# Altium integrated library MSP430 Altium Binary 5 Format.IntLib: 6 symbols
Pins are listed as number, name and electrical type; pins without a type are passive.

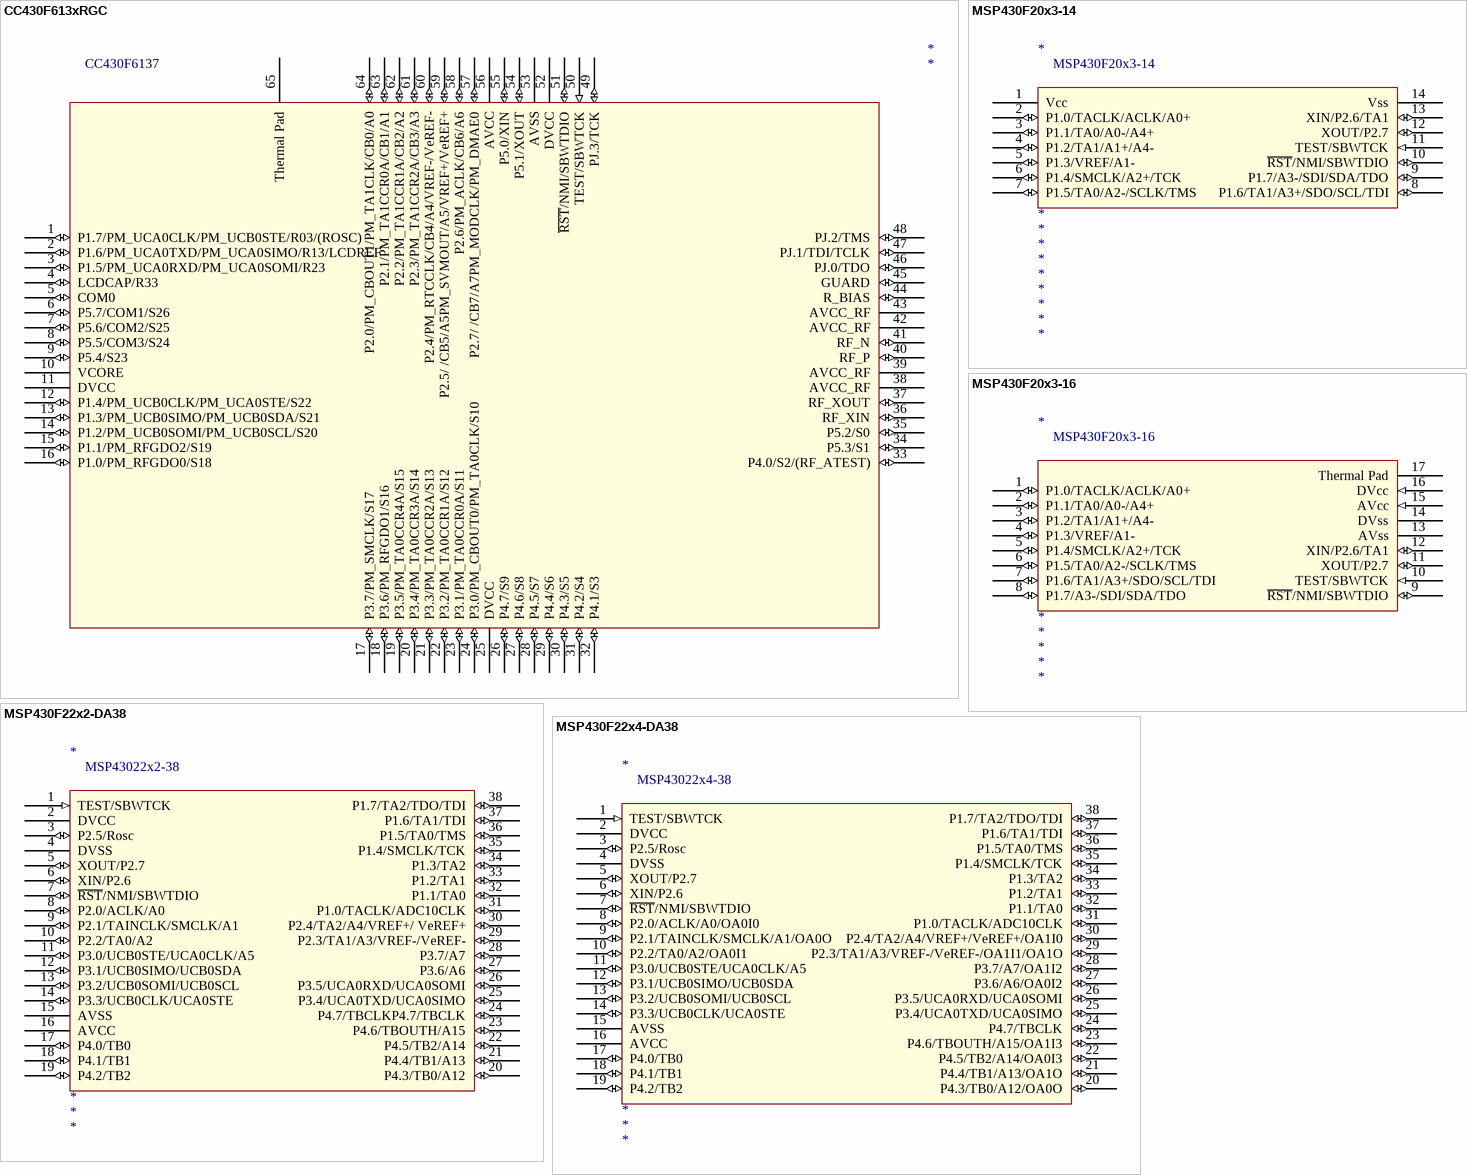
[diagram p0: symbols CC430F613xRGC to MSP430F22x4-DA38]

## CC430F613xRGC
designator *
footprint RGC64_M
pins: 1 P1.7/PM_UCA0CLK/PM_UCB0STE/R03/(ROSC) (io), 2 P1.6/PM_UCA0TXD/PM_UCA0SIMO/R13/LCDREF (io), 3 P1.5/PM_UCA0RXD/PM_UCA0SOMI/R23 (io), 4 LCDCAP/R33 (io), 5 COM0 (io), 6 P5.7/COM1/S26 (io), 7 P5.6/COM2/S25 (io), 8 P5.5/COM3/S24 (io), 9 P5.4/S23 (io), 10 VCORE (power), 11 DVCC (power), 12 P1.4/PM_UCB0CLK/PM_UCA0STE/S22 (io), 13 P1.3/PM_UCB0SIMO/PM_UCB0SDA/S21 (io), 14 P1.2/PM_UCB0SOMI/PM_UCB0SCL/S20 (io), 15 P1.1/PM_RFGDO2/S19 (io), 16 P1.0/PM_RFGDO0/S18 (io), 17 P3.7/PM_SMCLK/S17 (io), 18 P3.6/PM_RFGDO1/S16 (io), 19 P3.5/PM_TA0CCR4A/S15 (io), 20 P3.4/PM_TA0CCR3A/S14 (io), 21 P3.3/PM_TA0CCR2A/S13 (io), 22 P3.2/PM_TA0CCR1A/S12 (io), 23 P3.1/PM_TA0CCR0A/S11 (io), 24 P3.0/PM_CBOUT0/PM_TA0CLK/S10 (io), 25 DVCC (power), 26 P4.7/S9 (io), 27 P4.6/S8 (io), 28 P4.5/S7 (io), 29 P4.4/S6 (io), 30 P4.3/S5 (io), 31 P4.2/S4 (io), 32 P4.1/S3 (io), 33 P4.0/S2/(RF_ATEST) (io), 34 P5.3/S1 (io), 35 P5.2/S0 (io), 36 RF_XIN (io), 37 RF_XOUT (io), 38 AVCC_RF (power), 39 AVCC_RF (power), 40 RF_P (io), 41 RF_N (io), 42 AVCC_RF (power), 43 AVCC_RF (power), 44 R_BIAS (io), 45 GUARD (io), 46 PJ.0/TDO (io), 47 PJ.1/TDI/TCLK (io), 48 PJ.2/TMS (io), 49 PJ.3/TCK (io), 50 TEST/SBWTCK (in), 51 ~{RST}/NMI/SBWTDIO (io), 52 DVCC (power), 53 AVSS (power), 54 P5.1/XOUT (io), 55 P5.0/XIN (io), 56 AVCC (power), 57 P2.7/ /CB7/A7PM_MODCLK/PM_DMAE0 (io), 58 P2.6/PM_ACLK/CB6/A6 (io), 59 P2.5/ /CB5/A5PM_SVMOUT/A5/VREF+/VeREF+ (io), 60 P2.4/PM_RTCCLK/CB4/A4/VREF-/VeREF- (io), 61 P2.3/PM_TA1CCR2A/CB3/A3 (io), 62 P2.2/PM_TA1CCR1A/CB2/A2 (io), 63 P2.1/PM_TA1CCR0A/CB1/A1 (io), 64 P2.0/PM_CBOUT1/PM_TA1CLK/CB0/A0 (io), 65 Thermal Pad
2 alternate drawings of the same symbol
text: CC430F6137

## MSP430F20x3-14
designator *
Supplier 1: *; Supplier 2: *; Supplier 3: *; Supplier 4: *; Supplier Part Number 1: *; Supplier Part Number 2: *; Supplier Part Number 3: *; Supplier Part Number 4: *
footprint N014
footprint PW014
pins: 1 Vcc (power), 2 P1.0/TACLK/ACLK/A0+ (io), 3 P1.1/TA0/A0-/A4+ (io), 4 P1.2/TA1/A1+/A4- (io), 5 P1.3/VREF/A1- (io), 6 P1.4/SMCLK/A2+/TCK (io), 7 P1.5/TA0/A2-/SCLK/TMS (io), 8 P1.6/TA1/A3+/SDO/SCL/TDI (io), 9 P1.7/A3-/SDI/SDA/TDO (io), 10 ~{RST}/NMI/SBWTDIO (io), 11 TEST/SBWTCK (in), 12 XOUT/P2.7 (io), 13 XIN/P2.6/TA1 (io), 14 Vss (power)
2 alternate drawings of the same symbol

## MSP430F20x3-16
designator *
Supplier 1: *; Supplier 2: *; Supplier Part Number 1: *; Supplier Part Number 2: *
footprint RSA16_N
pins: 1 P1.0/TACLK/ACLK/A0+ (io), 2 P1.1/TA0/A0-/A4+ (io), 3 P1.2/TA1/A1+/A4- (io), 4 P1.3/VREF/A1- (io), 5 P1.4/SMCLK/A2+/TCK (io), 6 P1.5/TA0/A2-/SCLK/TMS (io), 7 P1.6/TA1/A3+/SDO/SCL/TDI (io), 8 P1.7/A3-/SDI/SDA/TDO (io), 9 ~{RST}/NMI/SBWTDIO (io), 10 TEST/SBWTCK (in), 11 XOUT/P2.7 (io), 12 XIN/P2.6/TA1 (io), 13 AVss (power), 14 DVss (power), 15 AVcc (in), 16 DVcc (in), 17 Thermal Pad (power)
2 alternate drawings of the same symbol

## MSP430F22x2-DA38
designator *
Supplier 1: *; Supplier Part Number 1: *
footprint DA38_M
pins: 1 TEST/SBWTCK (in), 2 DVCC (power), 3 P2.5/Rosc (io), 4 DVSS (power), 5 XOUT/P2.7 (io), 6 XIN/P2.6 (io), 7 ~{RST}/NMI/SBWTDIO (io), 8 P2.0/ACLK/A0 (io), 9 P2.1/TAINCLK/SMCLK/A1 (io), 10 P2.2/TA0/A2 (io), 11 P3.0/UCB0STE/UCA0CLK/A5 (io), 12 P3.1/UCB0SIMO/UCB0SDA (io), 13 P3.2/UCB0SOMI/UCB0SCL (io), 14 P3.3/UCB0CLK/UCA0STE (io), 15 AVSS (power), 16 AVCC (power), 17 P4.0/TB0 (io), 18 P4.1/TB1 (io), 19 P4.2/TB2 (io), 20 P4.3/TB0/A12 (io), 21 P4.4/TB1/A13 (io), 22 P4.5/TB2/A14 (io), 23 P4.6/TBOUTH/A15 (io), 24 P4.7/TBCLKP4.7/TBCLK (io), 25 P3.4/UCA0TXD/UCA0SIMO (io), 26 P3.5/UCA0RXD/UCA0SOMI (io), 27 P3.6/A6 (io), 28 P3.7/A7 (io), 29 P2.3/TA1/A3/VREF-/VeREF- (io), 30 P2.4/TA2/A4/VREF+/ VeREF+ (io), 31 P1.0/TACLK/ADC10CLK (io), 32 P1.1/TA0 (io), 33 P1.2/TA1 (io), 34 P1.3/TA2 (io), 35 P1.4/SMCLK/TCK (io), 36 P1.5/TA0/TMS (io), 37 P1.6/TA1/TDI (io), 38 P1.7/TA2/TDO/TDI (io)
2 alternate drawings of the same symbol
text: MSP43022x2-38

## MSP430F22x4-DA38
designator *
Supplier 1: *; Supplier Part Number 1: *
footprint DA38_M
pins: 1 TEST/SBWTCK (in), 2 DVCC (power), 3 P2.5/Rosc (io), 4 DVSS (power), 5 XOUT/P2.7 (io), 6 XIN/P2.6 (io), 7 ~{RST}/NMI/SBWTDIO (io), 8 P2.0/ACLK/A0/OA0I0 (io), 9 P2.1/TAINCLK/SMCLK/A1/OA0O (io), 10 P2.2/TA0/A2/OA0I1 (io), 11 P3.0/UCB0STE/UCA0CLK/A5 (io), 12 P3.1/UCB0SIMO/UCB0SDA (io), 13 P3.2/UCB0SOMI/UCB0SCL (io), 14 P3.3/UCB0CLK/UCA0STE (io), 15 AVSS (power), 16 AVCC (power), 17 P4.0/TB0 (io), 18 P4.1/TB1 (io), 19 P4.2/TB2 (io), 20 P4.3/TB0/A12/OA0O (io), 21 P4.4/TB1/A13/OA1O (io), 22 P4.5/TB2/A14/OA0I3 (io), 23 P4.6/TBOUTH/A15/OA1I3 (io), 24 P4.7/TBCLK (io), 25 P3.4/UCA0TXD/UCA0SIMO (io), 26 P3.5/UCA0RXD/UCA0SOMI (io), 27 P3.6/A6/OA0I2 (io), 28 P3.7/A7/OA1I2 (io), 29 P2.3/TA1/A3/VREF-/VeREF-/OA1I1/OA1O (io), 30 P2.4/TA2/A4/VREF+/VeREF+/OA1I0 (io), 31 P1.0/TACLK/ADC10CLK (io), 32 P1.1/TA0 (io), 33 P1.2/TA1 (io), 34 P1.3/TA2 (io), 35 P1.4/SMCLK/TCK (io), 36 P1.5/TA0/TMS (io), 37 P1.6/TA1/TDI (io), 38 P1.7/TA2/TDO/TDI (io)
2 alternate drawings of the same symbol
text: MSP43022x4-38

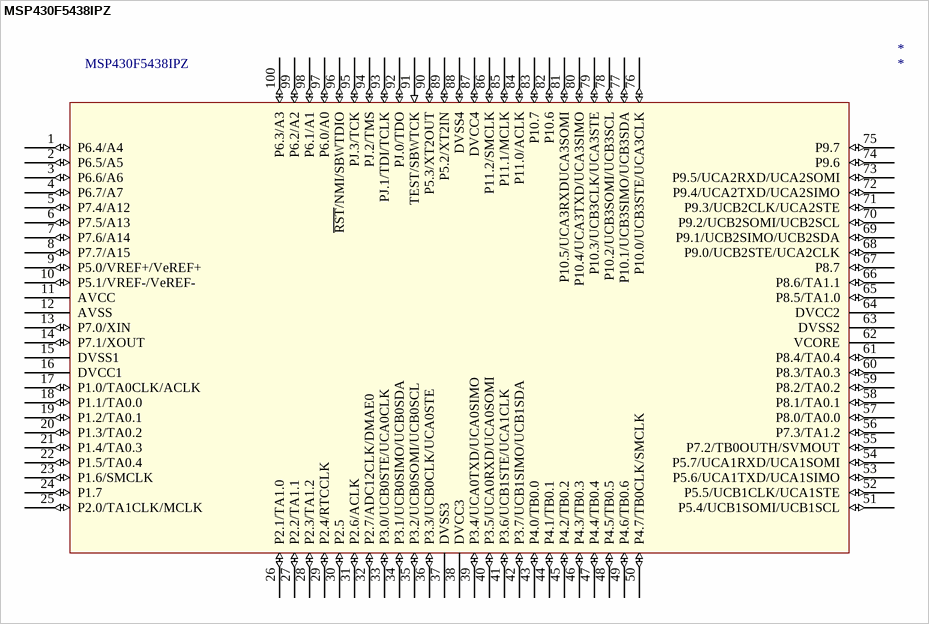
[diagram p1: symbol MSP430F5438IPZ]

## MSP430F5438IPZ
designator *
footprint PZ100_L
pins: 1 P6.4/A4 (io), 2 P6.5/A5 (io), 3 P6.6/A6 (io), 4 P6.7/A7 (io), 5 P7.4/A12 (io), 6 P7.5/A13 (io), 7 P7.6/A14 (io), 8 P7.7/A15 (io), 9 P5.0/VREF+/VeREF+ (io), 10 P5.1/VREF-/VeREF- (io), 11 AVCC (power), 12 AVSS (power), 13 P7.0/XIN (io), 14 P7.1/XOUT (io), 15 DVSS1 (power), 16 DVCC1 (power), 17 P1.0/TA0CLK/ACLK (io), 18 P1.1/TA0.0 (io), 19 P1.2/TA0.1 (io), 20 P1.3/TA0.2 (io), 21 P1.4/TA0.3 (io), 22 P1.5/TA0.4 (io), 23 P1.6/SMCLK (io), 24 P1.7 (io), 25 P2.0/TA1CLK/MCLK (io), 26 P2.1/TA1.0 (io), 27 P2.2/TA1.1 (io), 28 P2.3/TA1.2 (io), 29 P2.4/RTCCLK (io), 30 P2.5 (io), 31 P2.6/ACLK (io), 32 P2.7/ADC12CLK/DMAE0 (io), 33 P3.0/UCB0STE/UCA0CLK (io), 34 P3.1/UCB0SIMO/UCB0SDA (io), 35 P3.2/UCB0SOMI/UCB0SCL (io), 36 P3.3/UCB0CLK/UCA0STE (io), 37 DVSS3 (power), 38 DVCC3 (power), 39 P3.4/UCA0TXD/UCA0SIMO (io), 40 P3.5/UCA0RXD/UCA0SOMI (io), 41 P3.6/UCB1STE/UCA1CLK (io), 42 P3.7/UCB1SIMO/UCB1SDA (io), 43 P4.0/TB0.0 (io), 44 P4.1/TB0.1 (io), 45 P4.2/TB0.2 (io), 46 P4.3/TB0.3 (io), 47 P4.4/TB0.4 (io), 48 P4.5/TB0.5 (io), 49 P4.6/TB0.6 (io), 50 P4.7/TB0CLK/SMCLK (io), 51 P5.4/UCB1SOMI/UCB1SCL (io), 52 P5.5/UCB1CLK/UCA1STE (io), 53 P5.6/UCA1TXD/UCA1SIMO (io), 54 P5.7/UCA1RXD/UCA1SOMI (io), 55 P7.2/TB0OUTH/SVMOUT (io), 56 P7.3/TA1.2 (io), 57 P8.0/TA0.0 (io), 58 P8.1/TA0.1 (io), 59 P8.2/TA0.2 (io), 60 P8.3/TA0.3 (io), 61 P8.4/TA0.4 (io), 62 VCORE (power), 63 DVSS2 (power), 64 DVCC2 (power), 65 P8.5/TA1.0 (io), 66 P8.6/TA1.1 (io), 67 P8.7 (io), 68 P9.0/UCB2STE/UCA2CLK (io), 69 P9.1/UCB2SIMO/UCB2SDA (io), 70 P9.2/UCB2SOMI/UCB2SCL (io), 71 P9.3/UCB2CLK/UCA2STE (io), 72 P9.4/UCA2TXD/UCA2SIMO (io), 73 P9.5/UCA2RXD/UCA2SOMI (io), 74 P9.6 (io), 75 P9.7 (io), 76 P10.0/UCB3STE/UCA3CLK (io), 77 P10.1/UCB3SIMO/UCB3SDA (io), 78 P10.2/UCB3SOMI/UCB3SCL (io), 79 P10.3/UCB3CLK/UCA3STE (io), 80 P10.4/UCA3TXD/UCA3SIMO (io), 81 P10.5/UCA3RXDUCA3SOMI (io), 82 P10.6 (io), 83 P10.7 (io), 84 P11.0/ACLK (io), 85 P11.1/MCLK (io), 86 P11.2/SMCLK (io), 87 DVCC4 (io), 88 DVSS4 (io), 89 P5.2/XT2IN (io), 90 P5.3/XT2OUT (io), 91 TEST/SBWTCK (in), 92 PJ.0/TDO (io), 93 PJ.1/TDI/TCLK (io), 94 PJ.2/TMS (io), 95 PJ.3/TCK (io), 96 ~{RST}/NMI/SBWTDIO (io), 97 P6.0/A0 (io), 98 P6.1/A1 (io), 99 P6.2/A2 (io), 100 P6.3/A3 (io)
2 alternate drawings of the same symbol